# EAGLE library part MKR (library wsn)
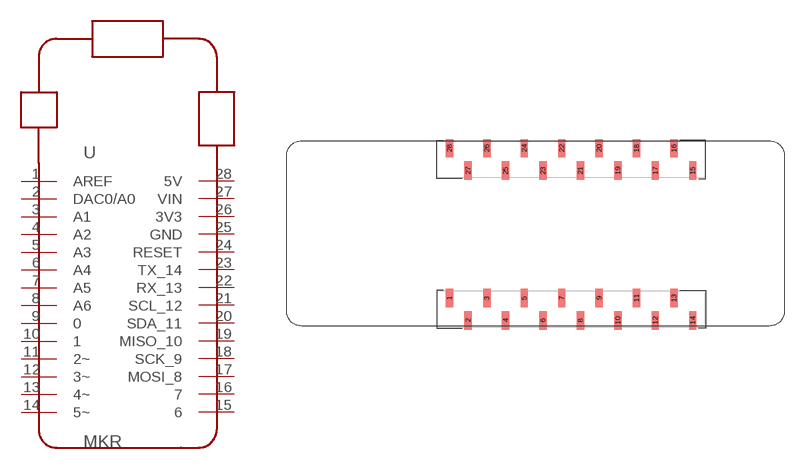
[diagram p67: symbol with the pads of MKR; footprint MKR]

Designator prefix -

## MKR  [MKR]
1  AREF
2  DAC0/A0
3  A1
4  A2
5  A3
6  A4
7  A5
8  A6
9  0
10  1
11  2~
12  3~
13  4~
14  5~
15  6
16  7
17  MOSI_8
18  SCK_9
19  MISO_10
20  SDA_11
21  SCL_12
22  RX_13
23  TX_14
24  RESET
25  GND
26  3V3
27  VIN
28  5V

## Footprint MKR (pad centres in mm)
smd 1 x 2.5: 1 -16.51,-8.64; 2 -13.97,-11.68; 3 -11.43,-8.64; 4 -8.89,-11.68; 5 -6.35,-8.64; 6 -3.81,-11.68; 7 -1.27,-8.64; 8 1.27,-11.68; 9 3.81,-8.64; 10 6.35,-11.68; 11 8.89,-8.64; 12 11.43,-11.68; 13 13.97,-8.64; 14 16.51,-11.68; 15 16.51,8.64; 16 13.97,11.68; 17 11.43,8.64; 18 8.89,11.68; 19 6.35,8.64; 20 3.81,11.68; 21 1.27,8.64; 22 -1.27,11.68; 23 -3.81,8.64; 24 -6.35,11.68; 25 -8.89,8.64; 26 -11.43,11.68; 27 -13.97,8.64; 28 -16.51,11.68